# EAGLE library part PIN_HEADER_2MM (library header_2x20_2mm)
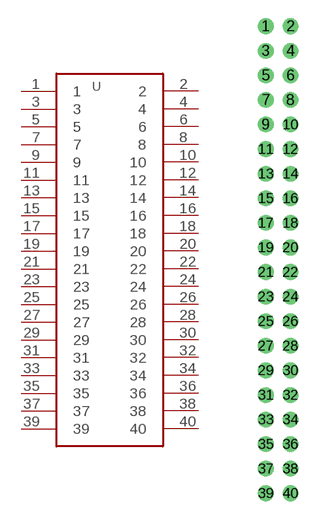
[diagram p0: symbol with the pads of PIN_HEADER_2MM; footprint PIN_HEADER_2MM]

Designator prefix -

## PIN_HEADER_2MM  [PIN_HEADER_2MM]
1  1
2  2
3  3
4  4
5  5
6  6
7  7
8  8
9  9
10  10
11  11
12  12
13  13
14  14
15  15
16  16
17  17
18  18
19  19
20  20
21  21
22  22
23  23
24  24
25  25
26  26
27  27
28  28
29  29
30  30
31  31
32  32
33  33
34  34
35  35
36  36
37  37
38  38
39  39
40  40

## Footprint PIN_HEADER_2MM (pad centres in mm)
drill 0.65 pad 1.27: 1 -2,38; 2 0,38; 3 -2,36; 4 0,36; 5 -2,34; 6 0,34; 7 -2,32; 8 0,32; 9 -2,30; 10 0,30; 11 -2,28; 12 0,28; 13 -2,26; 14 0,26; 15 -2,24; 16 0,24; 17 -2,22; 18 0,22; 19 -2,20; 20 0,20; 21 -2,18; 22 0,18; 23 -2,16; 24 0,16; 25 -2,14; 26 0,14; 27 -2,12; 28 0,12; 29 -2,10; 30 0,10; 31 -2,8; 32 0,8; 33 -2,6; 34 0,6; 35 -2,4; 36 0,4; 37 -2,2; 38 0,2; 39 -2,0; 40 0,0